# Altium integrated library Relay_Small.IntLib: 1 symbol
Pins are listed as number, name and electrical type; pins without a type are passive.

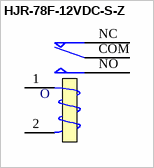
[diagram p0: symbol HJR-78F-12VDC-S-Z]

## HJR-78F-12VDC-S-Z
designator O, comment 12V SMALL  (value not drawn)
Manufacturer: TIANBO; Manufacture Part #: HJR-78F-12VDC-S-Z; Rating: 7A, 120VAC; Link to Datasheet: *; Link to Picture: *; Operating Temp: -40°C to +85°C; Storage Temp: -40°C to +105°C; Tolerance: *; ComponentLink1Description: *; ComponentLink1URL: *; Value: 12V SMALL
footprint Relay_5_Small
pins: 1, 2, COM, NC, NO